# EAGLE library part TL084QD (library TL084QD)
Check availability <https://pricing.snapeda.com/parts/TL084QD/Texas%20Instruments/view-part?ref=eda>
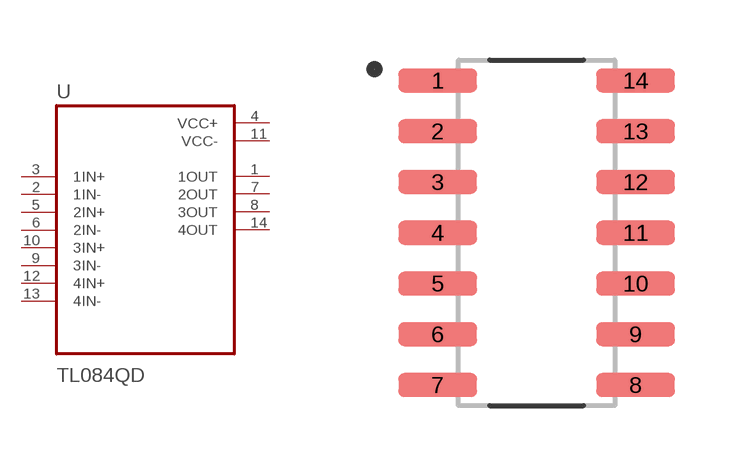
[diagram p0: symbol with the pads of SOIC127P600X175-14N; footprint SOIC127P600X175-14N]

Designator prefix U

## TL084QD (Availability: In Stock; Check_prices: https://www.snapeda.com/parts/TL084QD/Texas+Instruments/view-part/?ref=eda; Description: Quad, 30-V, 3-MHz, 13-V/µs slew rate, In to V+, JFET-input op amp; MF: Texas Instruments; MP: TL084QD; Package: SOIC-14 Texas Instruments; Price: None; Purchase-URL: https://www.snapeda.com/api/url_track_click_mouser/?unipart_id=1136083&manufacturer=Texas Instruments&part_name=TL084QD&search_term=tl084; SnapEDA_Link: https://www.snapeda.com/parts/TL084QD/Texas+Instruments/view-part/?ref=snap)  [SOIC127P600X175-14N]
1  1OUT  out
2  1IN-  in
3  1IN+  in
4  VCC+  pwr
5  2IN+  in
6  2IN-  in
7  2OUT  out
8  3OUT  out
9  3IN-  in
10  3IN+  in
11  VCC-  pwr
12  4IN+  in
13  4IN-  in
14  4OUT  out

## Footprint SOIC127P600X175-14N (pad centres in mm)
smd 1.97 x 0.6: 1 -2.475,3.81; 2 -2.475,2.54; 3 -2.475,1.27; 4 -2.475,0; 5 -2.475,-1.27; 6 -2.475,-2.54; 7 -2.475,-3.81; 8 2.475,-3.81; 9 2.475,-2.54; 10 2.475,-1.27; 11 2.475,0; 12 2.475,1.27; 13 2.475,2.54; 14 2.475,3.81